# EAGLE library part SMD-SPECIAL_28PIN_PIC32_11_3_2011_LT3083 (library VIPR_Components)
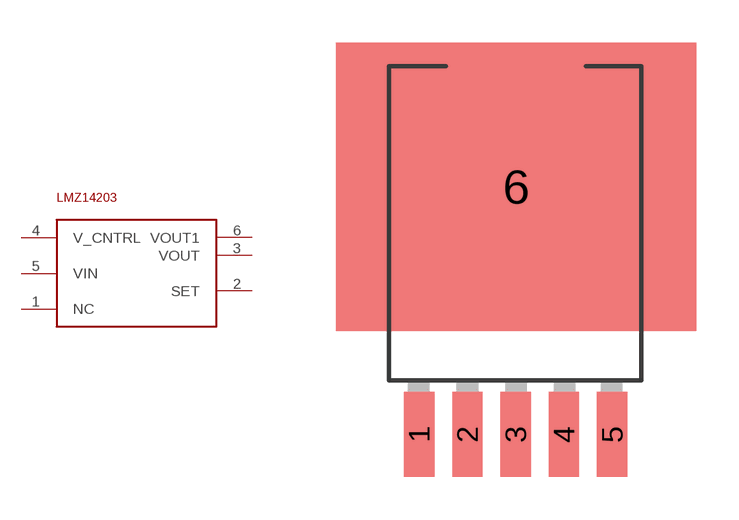
[diagram p3: symbol with the pads of SMD-SPECIAL_28PIN_PIC32_11_3_2011_DPAK-5; footprint SMD-SPECIAL_28PIN_PIC32_11_3_2011_DPAK-5]

Designator prefix -

## SMD-SPECIAL_28PIN_PIC32_11_3_2011_LT3083  [SMD-SPECIAL_28PIN_PIC32_11_3_2011_DPAK-5]
1  NC
2  SET
3  VOUT
4  V_CNTRL
5  VIN
6  VOUT1

## Footprint SMD-SPECIAL_28PIN_PIC32_11_3_2011_DPAK-5 (pad centres in mm)
smd 1.067 x 2.997: 1 -3.416,-7.468; 2 -1.714,-7.468; 3 -0.013,-7.468; 4 1.689,-7.468; 5 3.391,-7.468
smd 12.7 x 10.16: 6 0,1.27